# Altium footprint library Adafruit PyGamer.PCBLIB: 205 footprints (part 6 of 13)
Each footprint in its own frame and in the unit in brackets; x right, y up, seen from the top. Pads: shape width x height; smd on the part's side, far side on the other; paste and mask are expansions set on the pad; w line width, h text height; cw(c..) or ccw(c..) is an arc to the next point about the centre after c.
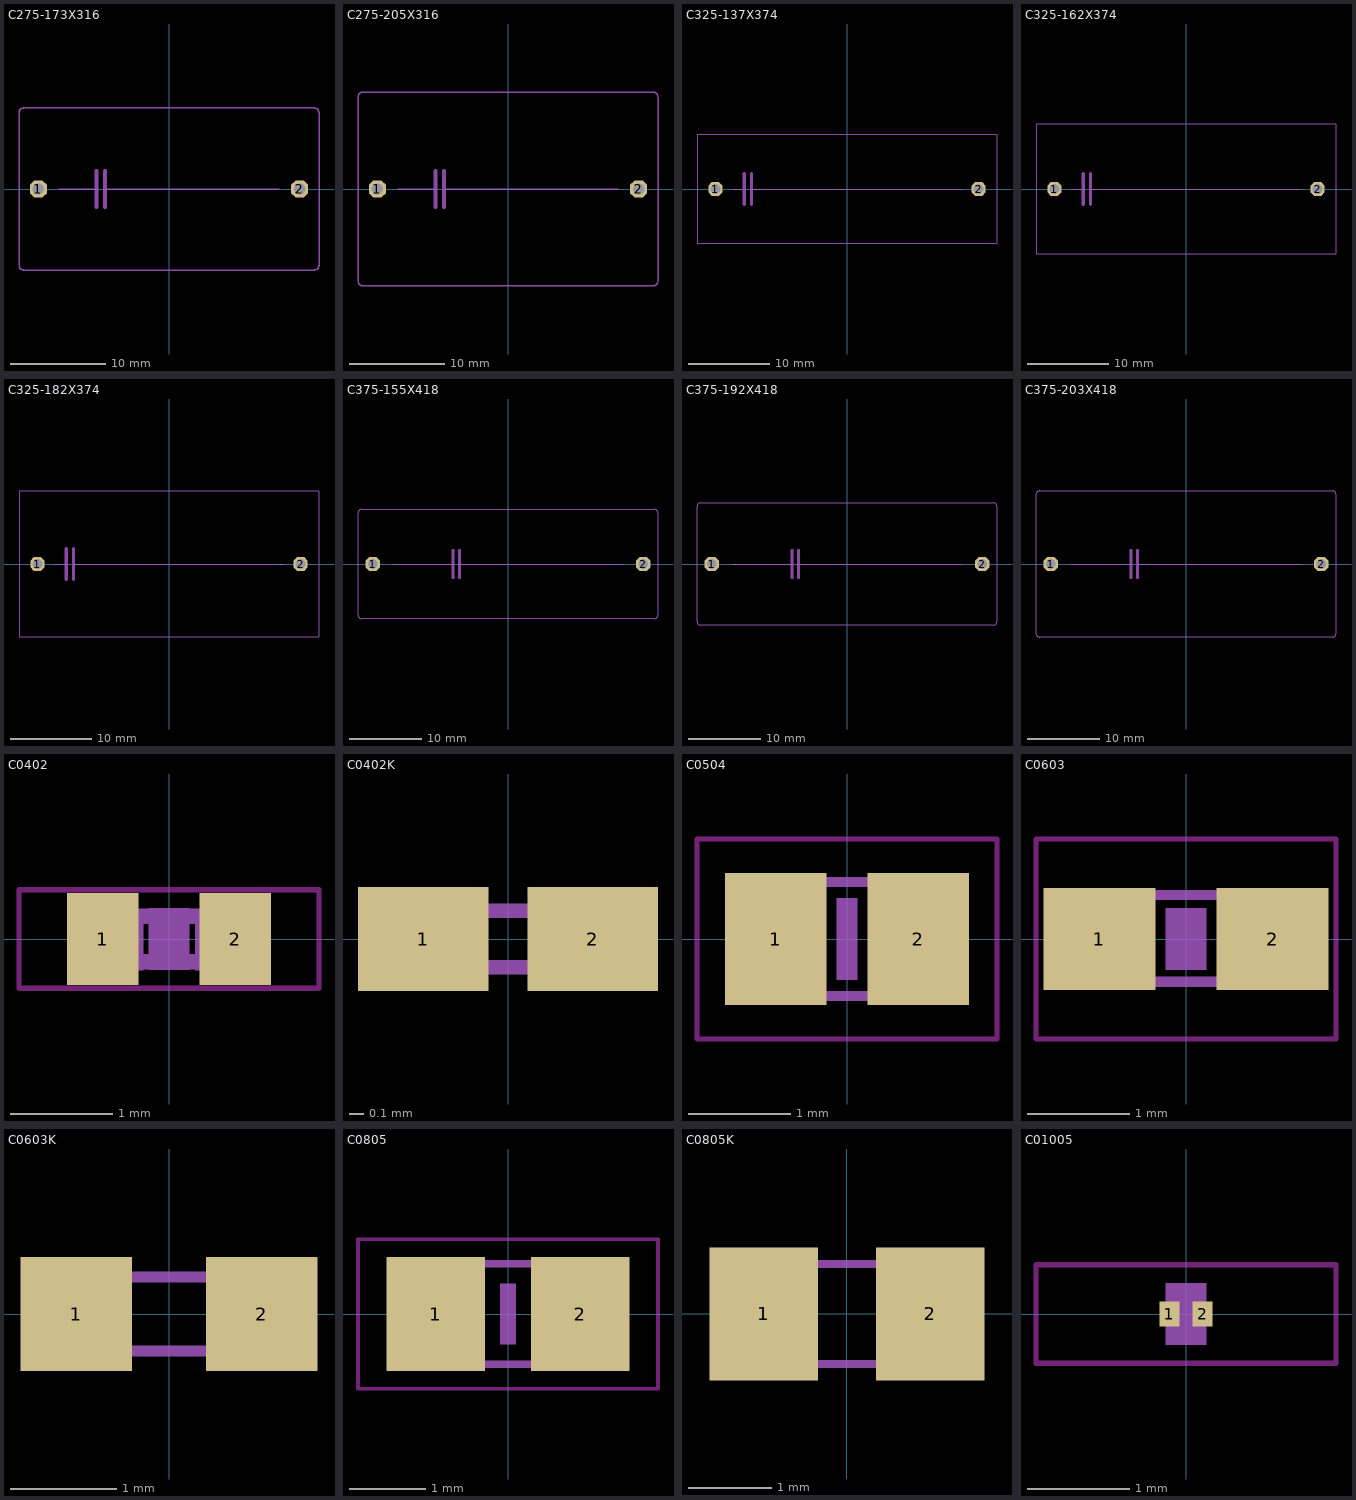
[diagram p5: the footprints below, top view; thin cyan lines are the x and y axes]

## C275-173X316 [mil]
pads (2):
  oct 70.5x70.5 / inner round 65.13 / far side oct 70.5x70.5 hole 47: 1(-540,0) 2(540,0)
tPlace:
  lines w6: -455,0 -300,0 ; -265,0 455,0 ; -620,-315 -620,315 cw(c-600,315) -600,335 600,335 cw(c600,315) 620,315 620,-315 cw(c600,-315) 600,-335 -600,-335 cw(c-600,-315) -620,-315
  lines w16: -300,-75 -300,0 -300,75 ; -265,-75 -265,0 -265,75

## C275-205X316 [mil]
pads (2):
  oct 70.5x70.5 / inner round 65.13 / far side oct 70.5x70.5 hole 47: 1(-540,0) 2(540,0)
tPlace:
  lines w6: -455,0 -300,0 ; -265,0 455,0 ; -620,-380 -620,380 cw(c-600,380) -600,400 600,400 cw(c600,380) 620,380 620,-380 cw(c600,-380) 600,-400 -600,-400 cw(c-600,-380) -620,-380
  lines w16: -300,-75 -300,0 -300,75 ; -265,-75 -265,0 -265,75

## C325-137X374 [mil]
pads (2):
  oct 70.5x70.5 / inner round 65.13 / far side oct 70.5x70.5 hole 47: 1(-640,0) 2(640,0)
tPlace:
  lines w6: -562,0 -500,0 ; -465,0 562,0 ; -730,-265 -730,265 730,265 730,-265 -730,-265
  lines w16: -500,-75 -500,0 -500,75 ; -465,-75 -465,0 -465,75

## C325-162X374 [mil]
pads (2):
  oct 70.5x70.5 / inner round 65.13 / far side oct 70.5x70.5 hole 47: 1(-640,0) 2(640,0)
tPlace:
  lines w6: -562,0 -500,0 ; -465,0 562,0 ; -730,-315 -730,315 730,315 730,-315 -730,-315
  lines w16: -500,-75 -500,0 -500,75 ; -465,-75 -465,0 -465,75

## C325-182X374 [mil]
pads (2):
  oct 70.5x70.5 / inner round 65.13 / far side oct 70.5x70.5 hole 47: 1(-640,0) 2(640,0)
tPlace:
  lines w6: -562,0 -500,0 ; -465,0 562,0 ; -730,-355 -730,355 730,355 730,-355 -730,-355
  lines w16: -500,-75 -500,0 -500,75 ; -465,-75 -465,0 -465,75

## C375-155X418 [mil]
pads (2):
  oct 78x78 / inner round 72.06 / far side oct 78x78 hole 52: 1(-740,0) 2(740,0)
tPlace:
  lines w6: -630,0 -300,0 ; -265,0 630,0 ; -820,-280 -820,280 cw(c-800,280) -800,300 800,300 cw(c800,280) 820,280 820,-280 cw(c800,-280) 800,-300 -800,-300 cw(c-800,-280) -820,-280
  lines w16: -300,-75 -300,0 -300,75 ; -265,-75 -265,0 -265,75

## C375-192X418 [mil]
pads (2):
  oct 78x78 / inner round 72.06 / far side oct 78x78 hole 52: 1(-740,0) 2(740,0)
tPlace:
  lines w6: -630,0 -300,0 ; -265,0 630,0 ; -820,-315 -820,315 cw(c-800,315) -800,335 800,335 cw(c800,315) 820,315 820,-315 cw(c800,-315) 800,-335 -800,-335 cw(c-800,-315) -820,-315
  lines w16: -300,-75 -300,0 -300,75 ; -265,-75 -265,0 -265,75

## C375-203X418 [mil]
pads (2):
  oct 78x78 / inner round 72.06 / far side oct 78x78 hole 52: 1(-740,0) 2(740,0)
tPlace:
  lines w6: -630,0 -300,0 ; -265,0 630,0 ; -820,-380 -820,380 cw(c-800,380) -800,400 800,400 cw(c800,380) 820,380 820,-380 cw(c800,-380) 800,-400 -800,-400 cw(c-800,-380) -820,-380
  lines w16: -300,-75 -300,0 -300,75 ; -265,-75 -265,0 -265,75

## C0402 [mm]
pads (2):
  rect 0.7x0.9 smd: 1(-0.65,0) 2(0.65,0)
Top keep-out:
  lines w0.051: -1.473,-0.483 1.473,-0.483 1.473,0.483 -1.473,0.483 -1.473,-0.483
tDocu:
  region: -0.554,-0.305 -0.554,0.295 -0.254,0.295 -0.254,-0.305
  region: 0.259,-0.305 0.259,0.295 0.559,0.295 0.559,-0.305
  lines w0.152: -0.245,-0.224 0.245,-0.224 ; -0.245,0.224 0.245,0.224
tGlue:
  region: -0.2,-0.3 -0.2,0.3 0.2,0.3 0.2,-0.3

## C0402K [mil]
pads (2):
  rect 36.42x29.13 smd: 1(-23.62,0) 2(23.62,0)
tDocu:
  region: -19.69,-9.84 -19.69,9.84 -8.86,9.84 -8.86,-9.84
  region: 8.86,-9.84 8.86,9.84 19.69,9.84 19.69,-9.84
  lines w4: -16.73,-7.87 16.73,-7.87 ; -16.73,7.87 16.73,7.87

## C0504 [mm]
pads (2):
  rect 1x1.3 smd: 1(-0.7,0) 2(0.7,0)
Top keep-out:
  lines w0.051: -1.473,-0.983 1.473,-0.983 1.473,0.983 -1.473,0.983 -1.473,-0.983
tDocu:
  region: -0.66,-0.622 -0.66,0.628 -0.28,0.628 -0.28,-0.622
  region: 0.279,-0.622 0.279,0.628 0.659,0.628 0.659,-0.622
  lines w0.102: -0.294,-0.559 0.294,-0.559 ; -0.294,0.559 0.294,0.559
tGlue:
  region: -0.1,-0.4 -0.1,0.4 0.1,0.4 0.1,-0.4

## C0603 [mm]
pads (2):
  rect 1.1x1 smd: 1(-0.85,0) 2(0.85,0)
Top keep-out:
  lines w0.051: -1.473,-0.983 1.473,-0.983 1.473,0.983 -1.473,0.983 -1.473,-0.983
tDocu:
  region: -0.838,-0.47 -0.838,0.48 -0.338,0.48 -0.338,-0.47
  region: 0.33,-0.47 0.33,0.48 0.83,0.48 0.83,-0.47
  lines w0.102: -0.356,-0.419 0.356,-0.419 ; -0.356,0.432 0.356,0.432
tGlue:
  region: -0.2,-0.3 -0.2,0.3 0.2,0.3 0.2,-0.3

## C0603K [mm]
pads (2):
  rect 1.05x1.08 smd: 1(-0.875,0) 2(0.875,0)
tDocu:
  region: -0.8,-0.4 -0.8,0.4 -0.45,0.4 -0.45,-0.4
  region: 0.45,-0.4 0.45,0.4 0.8,0.4 0.8,-0.4
  lines w0.102: -0.725,-0.35 0.725,-0.35 ; -0.725,0.35 0.725,0.35

## C0805 [mil]
pads (2):
  rect 51.18x59.06 smd: 1(-37.4,0) 2(37.4,0)
Top keep-out:
  lines w2: -77.68,-38.7 77.68,-38.7 77.68,38.7 -77.68,38.7 -77.68,-38.7
tDocu:
  region: -43,-28.5 -43,28.59 -13.47,28.59 -13.47,-28.5
  region: 14,-28.5 14,28.59 43.53,28.59 43.53,-28.5
  lines w4: -15,25.98 15,25.98 ; -14.02,-25.98 15,-25.98
tGlue:
  region: -3.94,-15.75 -3.94,15.75 3.94,15.75 3.94,-15.75

## C0805K [mm]
pads (2):
  rect 1.3x1.6 smd: 1(-1,0) 2(1,0)
tDocu:
  region: -1,-0.65 -1,0.65 -0.5,0.65 -0.5,-0.65
  region: 0.5,-0.65 0.5,0.65 1,0.65 1,-0.65
  lines w0.102: -0.925,-0.6 0.925,-0.6 ; -0.925,0.6 0.925,0.6

## C01005 [mil]
pads (2):
  rect 7.87x9.84 smd: 1(-6.4,0) 2(6.4,0)
Top keep-out:
  lines w2: -57.99,-19.02 57.99,-19.02 57.99,19.02 -57.99,19.02 -57.99,-19.02
tDocu:
  region: -7.87,-3.94 -7.87,3.94 -2.95,3.94 -2.95,-3.94
  region: 2.95,-3.94 2.95,3.94 7.87,3.94 7.87,-3.94
  region: -5.91,1.97 -5.91,3.94 5.91,3.94 5.91,1.97
  region: -5.91,-3.94 -5.91,-1.97 5.91,-1.97 5.91,-3.94
tGlue:
  region: -7.87,-11.81 -7.87,11.81 7.87,11.81 7.87,-11.81